# Altium schematic symbol library MA732GQ-Z.SchLib: 2 symbols
Pins are listed as number, name and electrical type; pins without a type are passive.

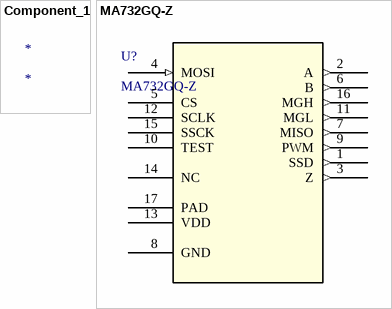
[diagram p0: symbols Component_1 to MA732GQ-Z]

## Component_1
designator *

## MA732GQ-Z
designator U?
No Description Available; Mfr_Name: Monolithic Power Systems; Copyright: Copyright (C) 2023 Ultra Librarian. All rights reserved.; Manufacturer_Part_Number: MA732GQ-Z; RefDes: RefDes; Type: DEV
footprint QFN-16_MA732
pins: 1 SSD (out), 2 A (out), 3 Z (out), 4 MOSI (in), 5 CS, 6 B (out), 7 MISO (out), 8 GND (power), 9 PWM (out), 10 TEST, 11 MGL (out), 12 SCLK, 13 VDD (power), 14 NC, 15 SSCK, 16 MGH (out), 17 PAD (power)